# EAGLE library part TPS63201 (library joule_shield)
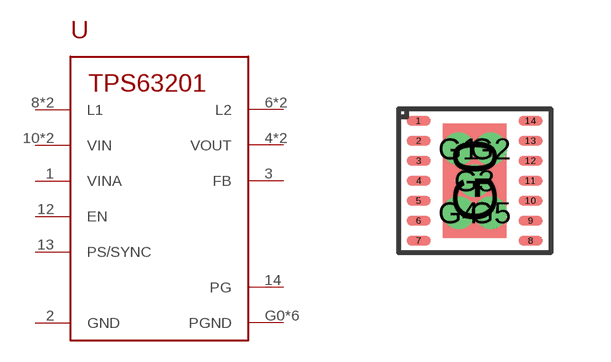
[diagram p4: symbol with the pads of PVSON-14; footprint PVSON-14]

Designator prefix -

## TPS63201PVSON-14  [PVSON-14]
1  VINA
2  GND
3  FB
4  VOUT
5  VOUT
6  L2
7  L2
8  L1
9  L1
10  VIN
11  VIN
12  EN
13  PS/SYNC
14  PG
G0  PGND
G1  PGND
G2  PGND
G3  PGND
G4  PGND
G5  PGND

## Footprint PVSON-14 (pad centres in mm)
smd 0.6 x 0.24: 1 -1.4,1.5; 2 -1.4,1; 3 -1.4,0.5; 4 -1.4,0; 5 -1.4,-0.5; 6 -1.4,-1; 7 -1.4,-1.5; 8 1.4,-1.5; 9 1.4,-1; 10 1.4,-0.5; 11 1.4,0; 12 1.4,0.5; 13 1.4,1; 14 1.4,1.5
smd 1.58 x 2.85: G0 0,0
drill 0.305 pad 0.6: G1 -0.4,0.8; G2 0.4,0.8; G3 0,0; G4 -0.4,-0.8; G5 0.4,-0.8